# Altium schematic symbol library TPIC8101DW.SchLib: 1 symbol
Pins are listed as number, name and electrical type; pins without a type are passive.

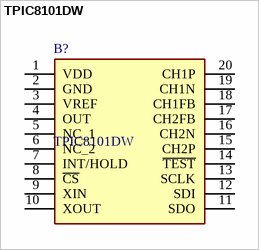
[diagram p0: symbol TPIC8101DW]

## TPIC8101DW
designator B?
Vibration and Engine Knock Sensor Interface; Manufacturer_Name: Texas Instruments; Geometry.Height: 2.65mm; Manufacturer_Part_Number: TPIC8101DW; Mouser Part Number: 595-TPIC8101DW; Mouser Price/Stock: https://www.mouser.co.uk/ProductDetail/Texas-Instruments/TPIC8101DW?qs=D8ivcil3VuwnjGabIL4Zzw%3D%3D; Arrow Part Number: TPIC8101DW; Arrow Price/Stock: https://www.arrow.com/en/products/tpic8101dw/texas-instruments?region=nac; Datasheet Link: http://www.ti.com/general/docs/lit/getliterature.tsp?genericPartNumber=TPIC8101&&fileType=pdf
footprint SOIC127P1030X265-20N
pins: 1 VDD, 2 GND, 3 VREF, 4 OUT, 5 NC_1, 6 NC_2, 7 INT/HOLD, 8 ~{CS}, 9 XIN, 10 XOUT, 11 SDO, 12 SDI, 13 SCLK, 14 ~{TEST}, 15 CH2P, 16 CH2N, 17 CH2FB, 18 CH1FB, 19 CH1N, 20 CH1P